# Altium footprint library PcbLib1.PcbLib: 3 footprints
Each footprint in its own frame and in the unit in brackets; x right, y up, seen from the top. Pads: shape width x height; smd on the part's side, far side on the other; paste and mask are expansions set on the pad; w line width, h text height; cw(c..) or ccw(c..) is an arc to the next point about the centre after c.
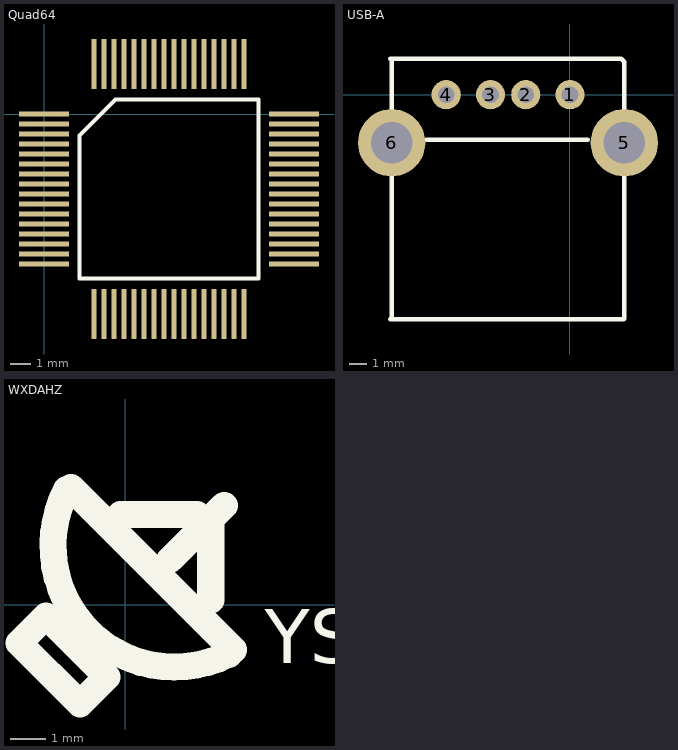
[diagram p0: the footprints below, top view; thin cyan lines are the x and y axes]

## Quad64 [mm]
pads (64):
  rect 2.5x0.25 smd: 1(0,0) 2(0,-0.5) 3(0,-1) 4(0,-1.5) 5(0,-2) 6(0,-2.5) 7(0,-3) 8(0,-3.5) 9(0,-4) 10(0,-4.5) 11(0,-5) 12(0,-5.5) 13(0,-6) 14(0,-6.5) 15(0,-7) 16(0,-7.5) 33(12.5,-7.5) 34(12.5,-7) 35(12.5,-6.5) 36(12.5,-6) 37(12.5,-5.5) 38(12.5,-5) 39(12.5,-4.5) 40(12.5,-4) 41(12.5,-3.5) 42(12.5,-3) 43(12.5,-2.5) 44(12.5,-2) 45(12.5,-1.5) 46(12.5,-1) 47(12.5,-0.5) 48(12.5,0)
  rect 0.25x2.5 smd: 17(2.5,-10) 18(3,-10) 19(3.5,-10) 20(4,-10) 21(4.5,-10) 22(5,-10) 23(5.5,-10) 24(6,-10) 25(6.5,-10) 26(7,-10) 27(7.5,-10) 28(8,-10) 29(8.5,-10) 30(9,-10) 31(9.5,-10) 32(10,-10) 49(10,2.5) 50(9.5,2.5) 51(9,2.5) 52(8.5,2.5) 53(8,2.5) 54(7.5,2.5) 55(7,2.5) 56(6.5,2.5) 57(6,2.5) 58(5.5,2.5) 59(5,2.5) 60(4.5,2.5) 61(4,2.5) 62(3.5,2.5) 63(3,2.5) 64(2.5,2.5)
Top Overlay:
  lines w0.2: 1.785,-8.215 10.715,-8.215 10.715,0.715 3.57,0.715 1.785,-1.07 1.785,-8.215

## USB-A [mil]
pads (6):
  round 65 hole 37: 1(0,0) 2(-98.5,0) 3(-177,0) 4(-275.6,0)
  round 150 hole 93: 5(121,-107) 6(-397,-107)
Top Overlay:
  lines w10: -400,80 114,80 121,73 121,-107 121,-499 120,-500 -400,-500 -397,-497 -397,-477 -397,-107 -397,77 ; -320,-100 40,-100

## WXDAHZ [mm]
Top Overlay:
  lines w0.762: -1.64,3.243 ccw(c1.392,1.662) 2.921,-1.397 ; -1.524,3.302 3.048,-1.27 ; -0.127,2.54 2.032,2.54 ; 1.27,1.27 2.794,2.794 ; 2.413,0.127 2.413,2.286 ; -2.984,-1.079 -1.27,-2.794 -0.508,-2.032 -2.222,-0.318 -2.984,-1.079
  text "YSUWUXIE" at 3.937,-1.651 h1.52